# EAGLE library part LINEAR,CURRENT-MONITOR:AD8212 (library QuantumOptics)
AD8212 Current Sense Monitor, Analog Devices, 7-65V, current output. http://www.analog.com/UploadedFiles/Data_Sheets/AD8212.pdf
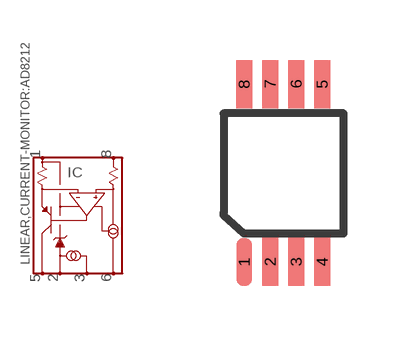
[diagram p104: symbol with the pads of MSOP8; footprint MSOP8]

Designator prefix IC

## LINEAR,CURRENT-MONITOR:AD8212RMZ  [MSOP8]
1  V+
2  COM
3  BIAS
5  I-OUT  out
6  ALPHA
8  V-SENSE  in

## Footprint MSOP8 (pad centres in mm)
MSOP-8, A.K.A. RM-8. Use 0.025" grid.
smd 0.4 x 1.2: 1 -0.65,-1.905; 2 0,-1.905; 3 0.65,-1.905; 4 1.3,-1.905; 5 1.3,2.54; 6 0.65,2.54; 7 0,2.54; 8 -0.65,2.54